# Altium schematic symbol library tps563209_12v_to5v.SchLib: 9 symbols
Pins are listed as number, name and electrical type; pins without a type are passive.

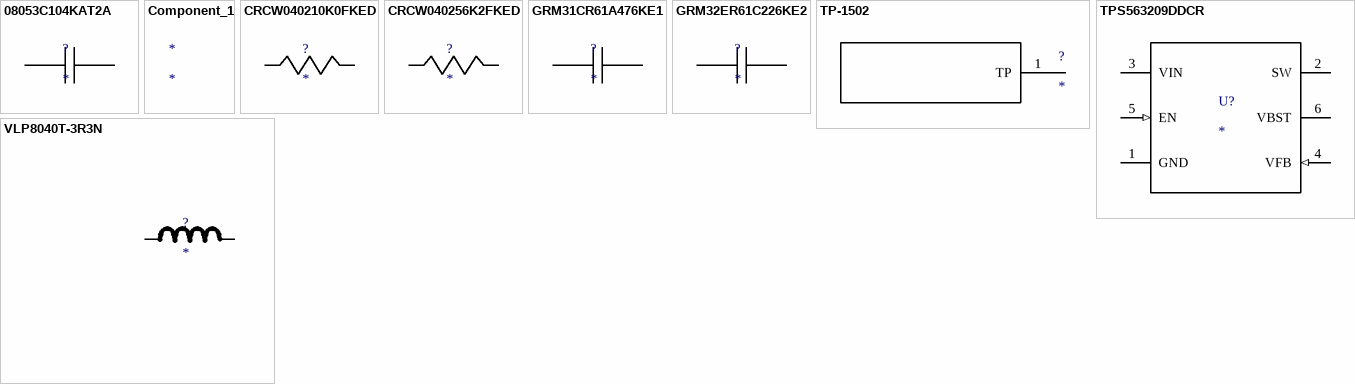
[diagram p0: symbols 08053C104KAT2A to VLP8040T-3R3N]

## 08053C104KAT2A
designator ?
Imported; Manufacturer_Part_Number: 08053C104KAT2A; Vendor: AVX; RefDes: RefDes; TYPE: TYPE; Value: Value
footprint 0805
pins: 1, 2

## Component_1
designator *

## CRCW040210K0FKED
designator ?
Imported; Manufacturer_Part_Number: CRCW040210K0FKED; Vendor: Vishay-Dale; RefDes: RefDes; TYPE: TYPE; Value: Value
footprint 0402
pins: 1, 2

## CRCW040256K2FKED
designator ?
Imported; Manufacturer_Part_Number: CRCW040256K2FKED; Vendor: Vishay-Dale; RefDes: RefDes; TYPE: TYPE; Value: Value
footprint 0402
pins: 1, 2

## GRM31CR61A476KE1
designator ?
Imported; Manufacturer_Part_Number: GRM31CR61A476KE15L; Vendor: MuRata; RefDes: RefDes; TYPE: TYPE; Value: Value
footprint 1206
pins: 1, 2

## GRM32ER61C226KE2
designator ?
Imported; Manufacturer_Part_Number: GRM32ER61C226KE20L; Vendor: MuRata; RefDes: RefDes; TYPE: TYPE; Value: Value
footprint 1210
pins: 1, 2

## TP-1502
designator ?
Imported; RefDes: RefDes; Type: Type; Value: Value
footprint TP-1502
pins: 1 TP

## TPS563209DDCR
designator U?
Imported; PartNumber: TPS563209DDC; Alternate Manufacturer: None; Manufacturer: Texas Instruments; CurrentTime: Not shown in title block; DocumentNumber: 1; SymbolCreator: a0411947; CompType: IC; U/M: EA; Designator: U?; PIN_COUNT: 6; CurrentDate: Not shown in title block; Time: Not shown in title block; Date: Not shown in title block; DocumentFullPathAndName: Not shown in title block; DocumentName: Not shown in title block; ModifiedDate: Not shown in title block; ApprovedBy: Not shown in title block; CheckedBy: Not shown in title block; Author: Not shown in title block; CompanyName: Not shown in title block; Engineer: Not shown in title block; Organization: Not shown in title block; Address1: Not shown in title block; Address2: Not shown in title block; Address3: Not shown in title block; Address4: Not shown in title block; Revision: Use project parameter SCH_Rev; SheetNumber: 1; SheetTotal: 1; ImagePath: Not shown in title block; Rule: *; ProjectName: *; SymbolVersion: 2014-04-11; PackageReference: DDC0006A; MountType: SMT; ComponentLink1Description: Datasheet Link; ComponentLink1URL: https://sps06.itg.ti.com/sites/KMS/crossdivteams/altium/docs/ComponentDatasheets/TPS56320xDDC_User's_Guide_v0p1_14_0203.pdf; RoHS: Y; Publisher: Texas Instruments; LatestRevisionDate: 2014-04-14; Refdes: Refdes; Type: Type; Value: Value
footprint DDC0006A
pins: 1 GND (power), 2 SW (power), 3 VIN (power), 4 VFB (in), 5 EN (in), 6 VBST (power)

## VLP8040T-3R3N
designator ?
Imported; Manufacturer_Part_Number: VLP8040T-3R3N; Vendor: TDK; DESCRIPTION: Unknown; PACKAGE_DESIGNATOR: VLP8040; Manufacturer: TDK; RefDes: RefDes; TYPE: TYPE; Value: Value
footprint VLP8040
pins: 1, 2